# Altium footprint library Footprints.PcbLib: 52 footprints (part 3 of 4)
Each footprint in its own frame and in the unit in brackets; x right, y up, seen from the top. Pads: shape width x height; smd on the part's side, far side on the other; paste and mask are expansions set on the pad; w line width, h text height; cw(c..) or ccw(c..) is an arc to the next point about the centre after c.
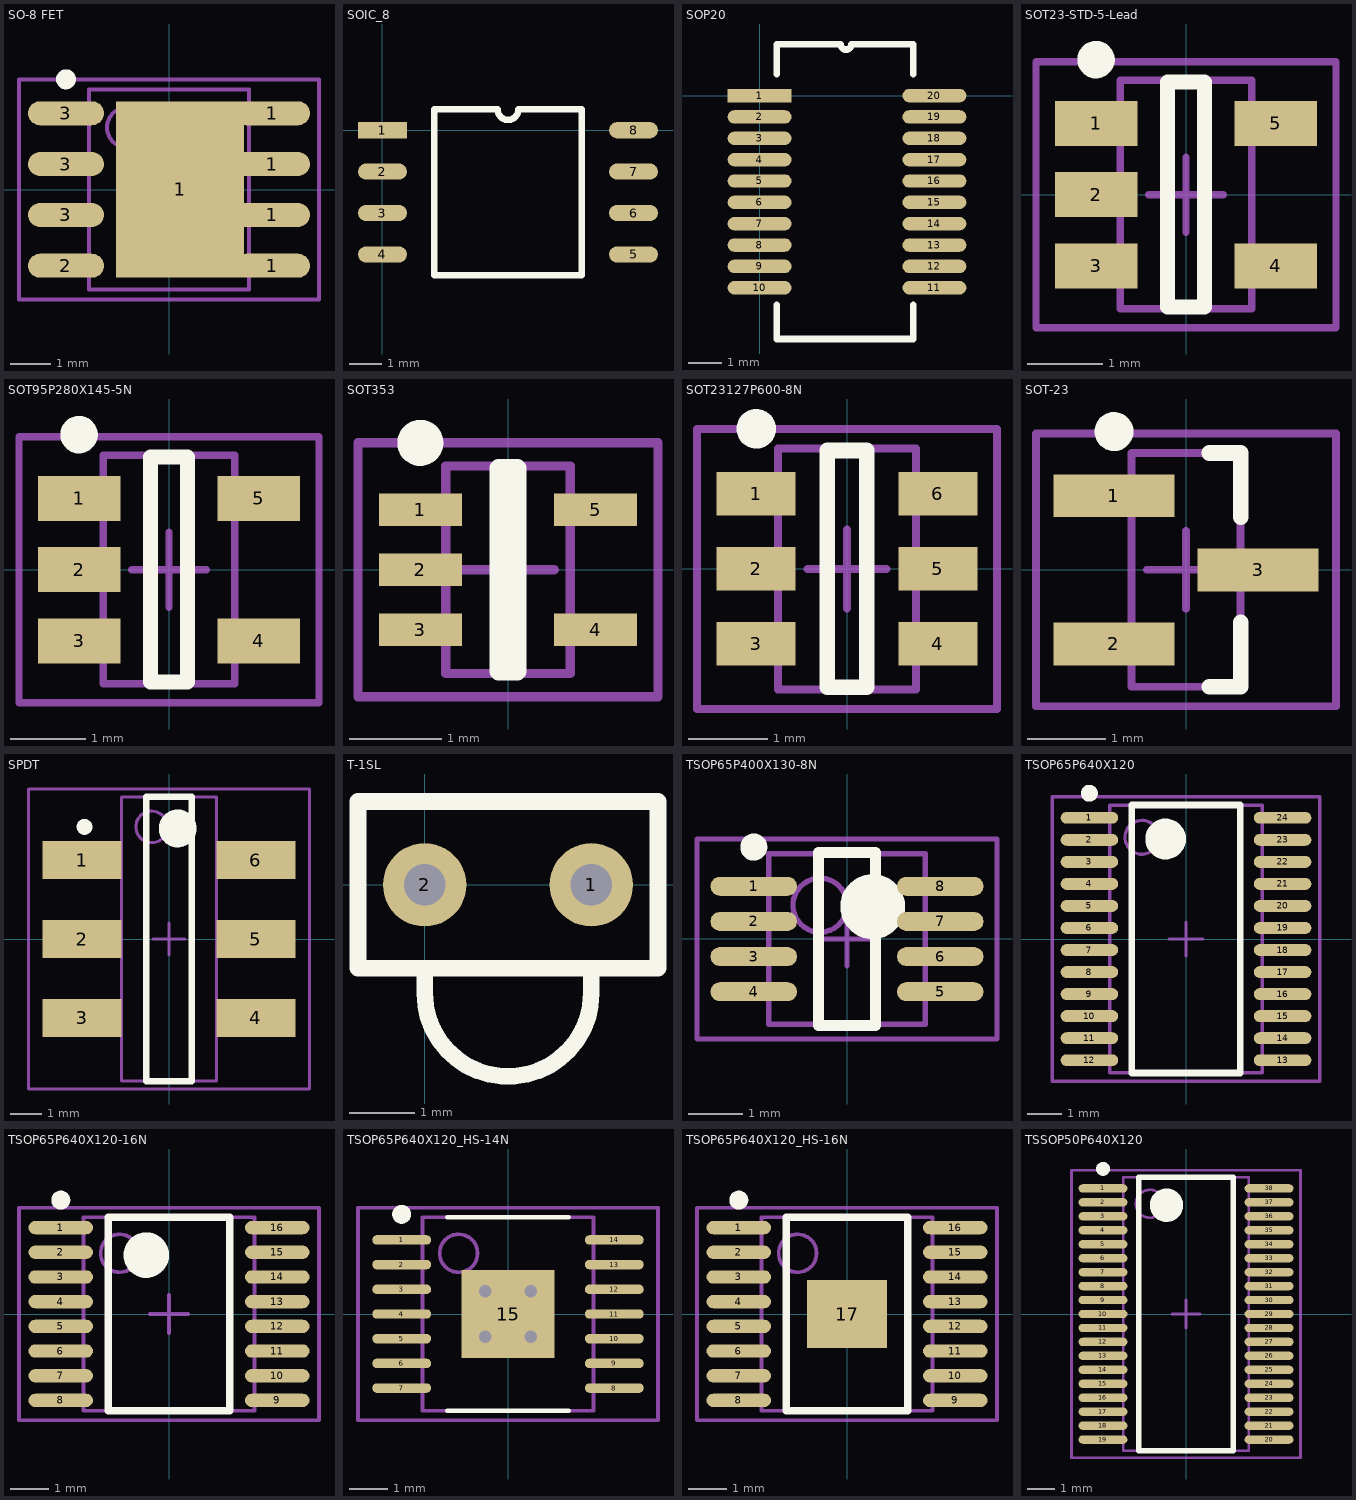
[diagram p2: the footprints below, top view; thin cyan lines are the x and y axes]

## SO-8 FET [mm] "SOIC, 8-Leads, Body 5.0x4.0mm (max), Pitch 1.27mm, IPC Medium Density"
height 1.75
pads (9):
  rect 3.2x4.4 smd: 1(0.277,0.002)
  oval 1.9x0.6 smd: 1(2.575,-1.905) 1(2.575,-0.635) 1(2.575,0.635) 1(2.575,1.905) 2(-2.575,-1.905) 3(-2.575,-0.635) 3(-2.575,0.635) 3(-2.575,1.905)
Top Overlay:
  circle w0.25: c-2.575,2.755 r0.125
Mechanical 13:
  circle w0.1: c-1.05,1.55 r0.5
  lines w0.1: -2,-2.5 -2,2.5 2,2.5 2,-2.5 -2,-2.5
Mechanical 15:
  lines w0.1: -0.5,0 0.5,0 ; 0,-0.5 0,0.5 ; -3.75,-2.75 -3.75,2.75 3.75,2.75 3.75,-2.75 -3.75,-2.75
3D body: height 1.75, standoff 0.1, extent -2,-2.5 2,2.5

## SOIC_8 [mm]
pads (8):
  rect 1.5x0.5 smd: 1(0,0)
  oval 1.5x0.5 smd: 2(0,-1.27) 3(0,-2.54) 4(0,-3.81) 5(7.7,-3.81) 6(7.7,-2.54) 7(7.7,-1.27) 8(7.7,0)
Top Overlay:
  lines w0.2: 1.585,-4.445 1.585,0.635 3.532,0.635 ccw(c3.85,0.635) 4.167,0.635 6.115,0.635 6.115,-4.445 1.585,-4.445

## SOP20 [mm]
pads (20):
  rect 1.9x0.4 smd: 1(0,0)
  oval 1.9x0.4 smd: 2(0,-0.635) 3(0,-1.27) 4(0,-1.905) 5(0,-2.54) 6(0,-3.175) 7(0,-3.81) 8(0,-4.445) 9(0,-5.08) 10(0,-5.715) 11(5.2,-5.715) 12(5.2,-5.08) 13(5.2,-4.445) 14(5.2,-3.81) 15(5.2,-3.175) 16(5.2,-2.54) 17(5.2,-1.905) 18(5.2,-1.27) 19(5.2,-0.635) 20(5.2,0)
Top Overlay:
  lines w0.2: 0.508,-6.223 0.508,-7.239 4.572,-7.239 4.572,-6.223 ; 0.508,0.635 0.508,1.524 2.413,1.524 ccw(c2.572,1.524) 2.73,1.524 ; 2.794,1.524 4.572,1.524 4.572,0.635

## SOT23-STD-5-Lead [mm] "SOT23, 5-Leads, Body 3.0x3.0mm (max), Pitch 0.95mm, IPC Medium Density"
height 1.45
pads (5):
  rect 1.1x0.6 smd: 1(-1.2,0.95) 2(-1.2,0) 3(-1.2,-0.95) 4(1.2,-0.95) 5(1.2,0.95)
Top Overlay:
  circle w0.25: c-1.2,1.8 r0.125
  lines w0.2: -0.25,-1.5 0.25,-1.5 0.25,1.5 -0.25,1.5 -0.25,-1.5
Mechanical 13:
  lines w0.1: -0.875,-1.525 -0.875,1.525 0.875,1.525 0.875,-1.525 -0.875,-1.525
Mechanical 15:
  lines w0.1: -0.5,0 0.5,0 ; 0,-0.5 0,0.5 ; -2,-1.775 -2,1.775 2,1.775 2,-1.775 -2,-1.775
3D body: height 1.45, standoff 0.15, extent -0.875,-1.525 0.875,1.525

## SOT95P280X145-5N [mm] "SOT23, 5-Leads, Body 3.0x3.0mm (max), Pitch 0.95mm, IPC Medium Density"
height 1.45
pads (5):
  rect 1.1x0.6 smd: 1(-1.2,0.95) 2(-1.2,0) 3(-1.2,-0.95) 4(1.2,-0.95) 5(1.2,0.95)
Top Overlay:
  circle w0.25: c-1.2,1.8 r0.125
  lines w0.2: -0.25,-1.5 -0.25,1.5 0.25,1.5 0.25,-1.5 -0.25,-1.5
Mechanical 13:
  lines w0.1: -0.875,-1.525 0.875,-1.525 0.875,1.525 -0.875,1.525 -0.875,-1.525
Mechanical 15:
  lines w0.1: -0.5,0 0.5,0 ; 0,-0.5 0,0.5 ; -2,-1.775 2,-1.775 2,1.775 -2,1.775 -2,-1.775
3D body: height 1.45, standoff 0.15, extent -0.875,-1.525 0.875,1.525

## SOT353 [mm] "SOT23, 5-Leads, Body 2.3x2.3mm (max), Pitch 0.65mm, IPC Medium Density"
height 1.1
pads (5):
  rect 0.9x0.35 smd: 1(-0.95,0.65) 2(-0.95,0) 3(-0.95,-0.65) 4(0.95,-0.65) 5(0.95,0.65)
Top Overlay:
  circle w0.25: c-0.95,1.375 r0.125
  lines w0.2: -0.1,-1.1 0.1,-1.1 0.1,1.1 -0.1,1.1 -0.1,-1.1
Mechanical 13:
  lines w0.1: -0.675,-1.125 -0.675,1.125 0.675,1.125 0.675,-1.125 -0.675,-1.125
Mechanical 15:
  lines w0.1: -0.5,0 0.5,0 ; 0,-0.5 0,0.5 ; -1.625,-1.375 -1.625,1.375 1.625,1.375 1.625,-1.375 -1.625,-1.375
3D body: height 1.1, standoff 0.1, extent -0.675,-1.125 0.675,1.125

## SOT23127P600-8N [mm]
height 1
pads (6):
  rect 1x0.55 smd: 1(-1.15,0.95) 2(-1.15,0) 3(-1.15,-0.95) 4(1.15,-0.95) 5(1.15,0) 6(1.15,0.95)
Top Overlay:
  circle w0.25: c-1.15,1.775 r0.125
  lines w0.2: -0.25,-1.5 0.25,-1.5 0.25,1.5 -0.25,1.5 -0.25,-1.5
Mechanical 13:
  lines w0.1: -0.875,-1.525 -0.875,1.525 0.875,1.525 0.875,-1.525 -0.875,-1.525
Mechanical 15:
  lines w0.1: -0.5,0 0.5,0 ; 0,-0.5 0,0.5 ; -1.9,-1.775 -1.9,1.775 1.9,1.775 1.9,-1.775 -1.9,-1.775
3D body: height 1, standoff 0.01, extent -0.875,-1.525 0.875,1.525

## SOT-23 [mm] "SOT23, 3-Leads, Body 3.0x2.6mm (max), Pitch 0.95mm, IPC Medium Density"
height 1.1
pads (3):
  rect 1.55x0.55 smd: 1(-0.925,0.95) 2(-0.925,-0.95) 3(0.925,0)
Top Overlay:
  circle w0.25: c-0.925,1.775 r0.125
  lines w0.2: 0.3,-1.5 0.7,-1.5 0.7,-0.675 ; 0.3,1.5 0.7,1.5 0.7,0.675
Mechanical 13:
  lines w0.1: -0.7,-1.5 -0.7,1.5 0.7,1.5 0.7,-1.5 -0.7,-1.5
Mechanical 15:
  lines w0.1: -0.5,0 0.5,0 ; 0,-0.5 0,0.5 ; -1.925,-1.75 -1.925,1.75 1.925,1.75 1.925,-1.75 -1.925,-1.75
3D body: height 1.1, standoff 0.05, extent -0.7,-1.5 0.7,1.5

## SPDT [mm]
height 5
pads (6):
  rect 2.5x1.2 smd: 1(-2.75,2.5) 2(-2.75,0) 3(-2.75,-2.5) 4(2.75,-2.5) 5(2.75,0) 6(2.75,2.5)
Top Overlay:
  circle w0.6: c0.275,3.5 r0.3
  circle w0.25: c-2.675,3.55 r0.125
  lines w0.2: -0.725,-4.5 0.725,-4.5 0.725,4.5 -0.725,4.5 -0.725,-4.5
Mechanical 13:
  circle w0.1: c-0.55,3.55 r0.5
  lines w0.1: -1.5,-4.5 1.5,-4.5 1.5,4.5 -1.5,4.5 -1.5,-4.5
Mechanical 15:
  lines w0.1: -0.5,0 0.5,0 ; 0,-0.5 0,0.5 ; -4.45,-4.75 4.45,-4.75 4.45,4.75 -4.45,4.75 -4.45,-4.75
3D body: height 3.5, standoff 0.3, extent -1.5,-4.5 1.5,4.5
3D body: height 5, standoff 3.5, extent -1.5,-2 1.5,1.5

## T-1SL [mm]
pads (2):
  round 1.27 hole 0.635: 1(2.54,0) 2(0,0)
Top Overlay:
  lines w0.254: 1.27,-1.27 0,-1.27 0,-1.651 ccw(c1.27,-1.651) 2.54,-1.651 2.54,-1.27 ; -1.016,-1.27 3.556,-1.27 3.556,1.27 1.27,1.27 -1.016,1.27 -1.016,-1.27

## TSOP65P400X130-8N [mm] "TSOP, 8-Leads, Body 3.2x2.9mm (max), Pitch 0.65mm, IPC Medium Density"
height 1.3
pads (8):
  oval 1.6x0.35 smd: 1(-1.725,0.975) 2(-1.725,0.325) 3(-1.725,-0.325) 4(-1.725,-0.975) 5(1.725,-0.975) 6(1.725,-0.325) 7(1.725,0.325) 8(1.725,0.975)
Top Overlay:
  circle w0.25: c-1.725,1.7 r0.125
  circle w0.6: c0.475,0.6 r0.3
  lines w0.2: -0.525,-1.6 -0.525,1.6 0.525,1.6 0.525,-1.6 -0.525,-1.6
Mechanical 13:
  circle w0.1: c-0.5,0.625 r0.5
  lines w0.1: -1.45,-1.575 -1.45,1.575 1.45,1.575 1.45,-1.575 -1.45,-1.575
Mechanical 15:
  lines w0.1: -0.5,0 0.5,0 ; 0,-0.5 0,0.5 ; -2.775,-1.85 -2.775,1.85 2.775,1.85 2.775,-1.85 -2.775,-1.85
3D body: height 1.3, standoff 0.1, extent -1.45,-1.575 1.45,1.575

## TSOP65P640X120 [mm] "TSOP, 24-Leads, Body 7.9x4.5mm (max), Pitch 0.65mm, IPC Medium Density"
height 1.2
pads (24):
  oval 1.7x0.35 smd: 1(-2.85,3.575) 2(-2.85,2.925) 3(-2.85,2.275) 4(-2.85,1.625) 5(-2.85,0.975) 6(-2.85,0.325) 7(-2.85,-0.325) 8(-2.85,-0.975) 9(-2.85,-1.625) 10(-2.85,-2.275) 11(-2.85,-2.925) 12(-2.85,-3.575) 13(2.85,-3.575) 14(2.85,-2.925) 15(2.85,-2.275) 16(2.85,-1.625) 17(2.85,-0.975) 18(2.85,-0.325) 19(2.85,0.325) 20(2.85,0.975) 21(2.85,1.625) 22(2.85,2.275) 23(2.85,2.925) 24(2.85,3.575)
Top Overlay:
  circle w0.6: c-0.6,2.95 r0.3
  circle w0.25: c-2.85,4.3 r0.125
  lines w0.2: -1.6,-3.95 1.6,-3.95 1.6,3.95 -1.6,3.95 -1.6,-3.95
Mechanical 13:
  circle w0.1: c-1.3,3 r0.5
  lines w0.1: -2.25,-3.95 2.25,-3.95 2.25,3.95 -2.25,3.95 -2.25,-3.95
Mechanical 15:
  lines w0.1: -0.5,0 0.5,0 ; 0,-0.5 0,0.5 ; -3.95,-4.2 3.95,-4.2 3.95,4.2 -3.95,4.2 -3.95,-4.2
3D body: height 1.2, standoff 0.15, extent -2.25,-3.95 2.25,3.95

## TSOP65P640X120-16N [mm] "TSOP, 16-Leads, Body 5.1x4.5mm (max), Pitch 0.65mm, IPC Medium Density"
height 1.2
pads (16):
  oval 1.7x0.35 smd: 1(-2.85,2.275) 2(-2.85,1.625) 3(-2.85,0.975) 4(-2.85,0.325) 5(-2.85,-0.325) 6(-2.85,-0.975) 7(-2.85,-1.625) 8(-2.85,-2.275) 9(2.85,-2.275) 10(2.85,-1.625) 11(2.85,-0.975) 12(2.85,-0.325) 13(2.85,0.325) 14(2.85,0.975) 15(2.85,1.625) 16(2.85,2.275)
Top Overlay:
  circle w0.6: c-0.6,1.55 r0.3
  circle w0.25: c-2.85,3 r0.125
  lines w0.2: -1.6,-2.55 1.6,-2.55 1.6,2.55 -1.6,2.55 -1.6,-2.55
Mechanical 13:
  circle w0.1: c-1.3,1.6 r0.5
  lines w0.1: -2.25,-2.55 2.25,-2.55 2.25,2.55 -2.25,2.55 -2.25,-2.55
Mechanical 15:
  lines w0.1: -0.5,0 0.5,0 ; 0,-0.5 0,0.5 ; -3.95,-2.8 3.95,-2.8 3.95,2.8 -3.95,2.8 -3.95,-2.8
3D body: height 1.2, standoff 0.05, extent -2.25,-2.55 2.25,2.55

## TSOP65P640X120_HS-14N [mm] "TSOP, 14-Leads, Body 5.1x4.5mm (max), Pitch 0.65mm, IPC Medium Density"
height 1.2
pads (15):
  oval 1.55x0.25 smd: 1(-2.8,1.95) 2(-2.8,1.3) 3(-2.8,0.65) 4(-2.8,0) 5(-2.8,-0.65) 6(-2.8,-1.3) 7(-2.8,-1.95) 8(2.8,-1.95) 9(2.8,-1.3) 10(2.8,-0.65) 11(2.8,0) 12(2.8,0.65) 13(2.8,1.3) 14(2.8,1.95)
  rect 2.46x2.31 smd: 15(0,0)
via -0.6,0.6 diameter 0.66 hole 0.33
via 0.6,0.6 diameter 0.66 hole 0.33
via -0.6,-0.6 diameter 0.66 hole 0.33
via 0.6,-0.6 diameter 0.66 hole 0.33
Top Overlay:
  circle w0.25: c-2.8,2.625 r0.125
  lines w0.127: -1.6,-2.55 1.6,-2.55 ; -1.6,2.55 1.6,2.55
Mechanical 13:
  circle w0.1: c-1.3,1.6 r0.5
  lines w0.1: -2.25,-2.55 -2.25,2.55 2.25,2.55 2.25,-2.55 -2.25,-2.55
Mechanical 15:
  lines w0.1: -0.5,0 0.5,0 ; 0,-0.5 0,0.5 ; -3.95,-2.8 -3.95,2.8 3.95,2.8 3.95,-2.8 -3.95,-2.8
3D body: height 1.2, standoff 0.15, extent -2.25,-2.55 2.25,2.55

## TSOP65P640X120_HS-16N [mm] "TSOP, 16-Leads, Body 5.1x4.5mm (max), Pitch 0.65mm, IPC Medium Density"
height 1.2
pads (17):
  oval 1.7x0.35 smd: 1(-2.85,2.275) 2(-2.85,1.625) 3(-2.85,0.975) 4(-2.85,0.325) 5(-2.85,-0.325) 6(-2.85,-0.975) 7(-2.85,-1.625) 8(-2.85,-2.275) 9(2.85,-2.275) 10(2.85,-1.625) 11(2.85,-0.975) 12(2.85,-0.325) 13(2.85,0.325) 14(2.85,0.975) 15(2.85,1.625) 16(2.85,2.275)
  rect 2.1x1.8 smd: 17(0,0)
Top Overlay:
  circle w0.25: c-2.85,3 r0.125
  lines w0.2: -1.6,-2.55 1.6,-2.55 1.6,2.55 -1.6,2.55 -1.6,-2.55
Mechanical 13:
  circle w0.1: c-1.3,1.6 r0.5
  lines w0.1: -2.25,-2.55 2.25,-2.55 2.25,2.55 -2.25,2.55 -2.25,-2.55
Mechanical 15:
  lines w0.1: -0.5,0 0.5,0 ; 0,-0.5 0,0.5 ; -3.95,-2.8 3.95,-2.8 3.95,2.8 -3.95,2.8 -3.95,-2.8
3D body: height 1.2, standoff 0.05, extent -2.25,-2.55 2.25,2.55

## TSSOP50P640X120 [mm] "TSSOP, 38-Leads, Body 9.8x4.5mm (max), Pitch 0.50mm, IPC Medium Density"
height 1.2
pads (38):
  oval 1.75x0.3 smd: 1(-2.975,4.5) 2(-2.975,4) 3(-2.975,3.5) 4(-2.975,3) 5(-2.975,2.5) 6(-2.975,2) 7(-2.975,1.5) 8(-2.975,1) 9(-2.975,0.5) 10(-2.975,0) 11(-2.975,-0.5) 12(-2.975,-1) 13(-2.975,-1.5) 14(-2.975,-2) 15(-2.975,-2.5) 16(-2.975,-3) 17(-2.975,-3.5) 18(-2.975,-4) 19(-2.975,-4.5) 20(2.975,-4.5) 21(2.975,-4) 22(2.975,-3.5) 23(2.975,-3) 24(2.975,-2.5) 25(2.975,-2) 26(2.975,-1.5) 27(2.975,-1) 28(2.975,-0.5) 29(2.975,0) 30(2.975,0.5) 31(2.975,1) 32(2.975,1.5) 33(2.975,2) 34(2.975,2.5) 35(2.975,3) 36(2.975,3.5) 37(2.975,4) 38(2.975,4.5)
Top Overlay:
  circle w0.25: c-2.975,5.2 r0.125
  circle w0.6: c-0.7,3.9 r0.3
  lines w0.2: -1.7,-4.9 -1.7,4.9 1.7,4.9 1.7,-4.9 -1.7,-4.9
Mechanical 13:
  circle w0.1: c-1.3,3.95 r0.5
  lines w0.1: -2.25,-4.9 -2.25,4.9 2.25,4.9 2.25,-4.9 -2.25,-4.9
Mechanical 15:
  lines w0.1: -0.5,0 0.5,0 ; 0,-0.5 0,0.5 ; -4.1,-5.15 -4.1,5.15 4.1,5.15 4.1,-5.15 -4.1,-5.15
3D body: height 1.2, standoff 0.15, extent -2.25,-4.9 2.25,4.9